# EAGLE library part FXMAR2102 (library bschulz)
FXMAR2102 - 2 Channel Bidirectional Voltage Level Translator for I2C Applications Characteristics: Vcc: 1.65 ~ 5.5V IQ: <5μA Output Current: 50mA Output Type: Open Drain/Push-Pull Operating Temperature: -40°C to 85°C Digikey: FXMAR2102UMX-F106CT-ND (UMLP) <https://www.digikey.com/en/products/detail/onsemi/FXMAR2102UMX-F106/5050715>
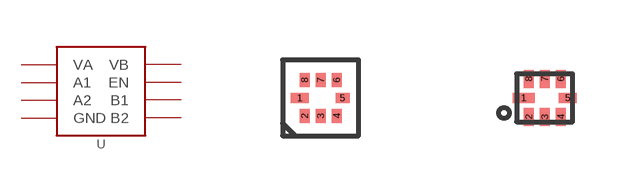
[diagram p9: symbol with the pads of MICROPAK_8; footprints MICROPAK_8, UQFN-8_1.4X1.2]

Designator prefix U

## FXMAR2102MICROPAK (DIGIKEY: FXMAR2102L8XCT-ND; DISP: FXMAR2102; MF: OnSemi; MPN: FXMAR2102L8X)  [MICROPAK_8]
1  VA  pwr
2  A1
3  A2
4  GND  pwr
5  EN  in
6  B2
7  B1
8  VB  pwr

## FXMAR2102UMLP (DIGIKEY: FXMAR2102UMX-F106CT-ND; DISP: FXMAR2102; MF: OnSemi; MPN: FXMAR2102UMX-F106)  [UQFN-8_1.4X1.2]
Pads as for MICROPAK_8

## Footprint MICROPAK_8 (pad centres in mm)
smd 0.45 x 0.25: 1 -0.525,0
smd 0.25 x 0.35: 2 -0.4,-0.45; 3 0,-0.45; 4 0.4,-0.45; 6 0.4,0.45; 7 0,0.45; 8 -0.4,0.45
smd 0.35 x 0.25: 5 0.55,0

## Footprint UQFN-8_1.4X1.2 (pad centres in mm)
UQFN, 8 pos, 0.4mm pitch, 1.4x1.2mm body Datasheet <https://www.onsemi.cn/pdf/datasheet/fxmar2102-d.pdf>
smd 0.55 x 0.25: 1 -0.53,0
smd 0.25 x 0.45: 2 -0.4,-0.475; 3 0,-0.475; 4 0.4,-0.475; 6 0.4,0.475; 7 0,0.475; 8 -0.4,0.475
smd 0.45 x 0.25: 5 0.58,0